# EAGLE library part WG7351 (library GTA04b7)
JorJin WL1271L (WiLink6) Module WLAN/BT/FM
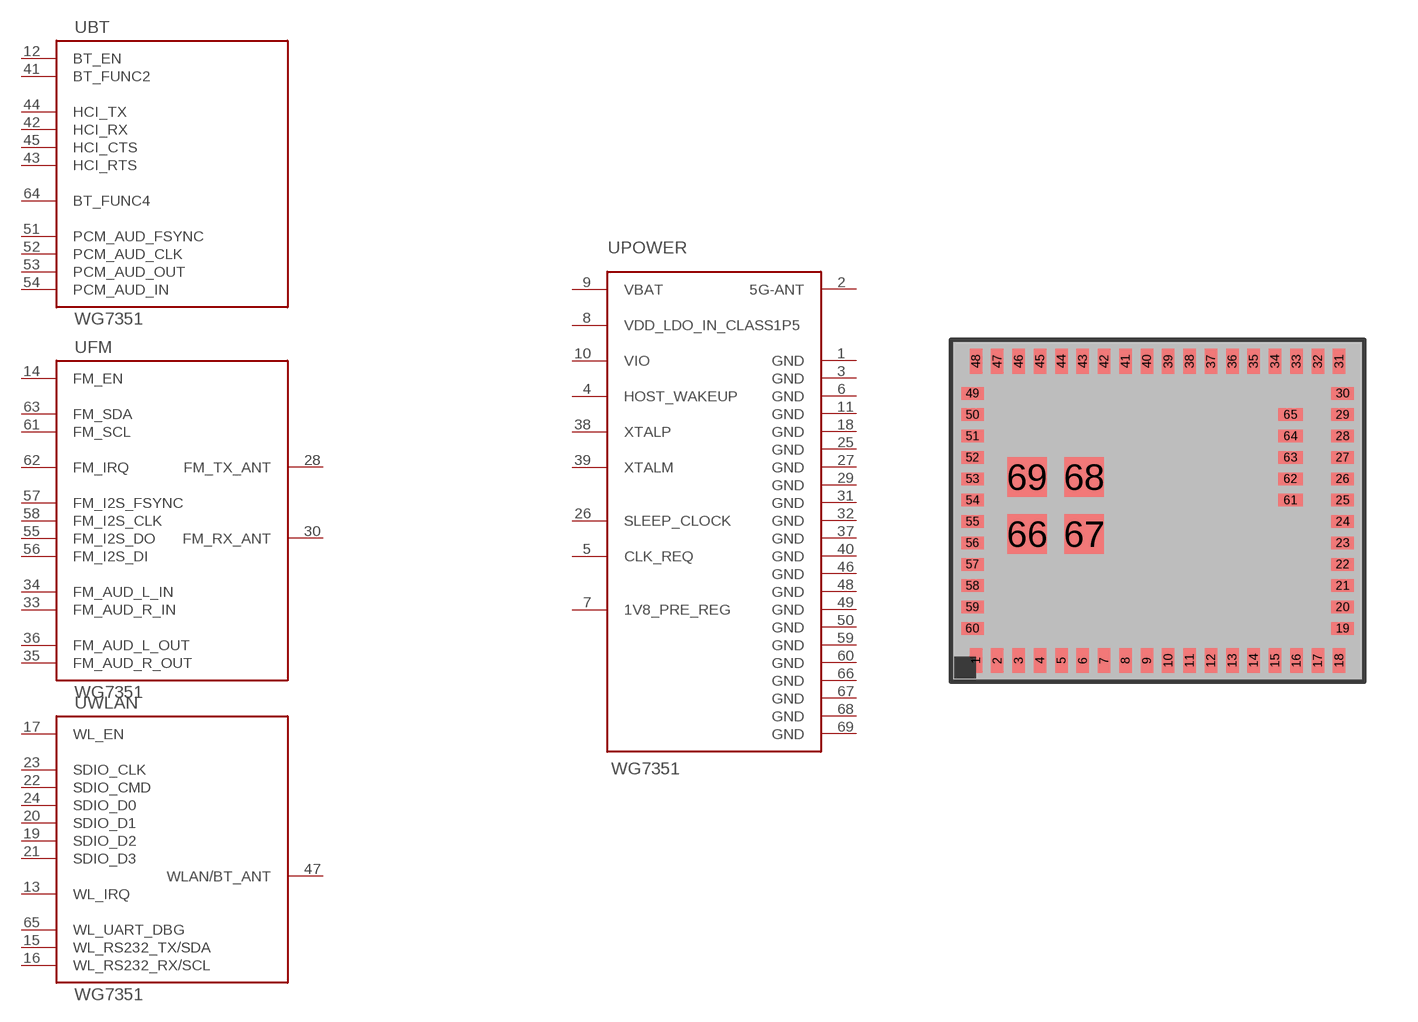
[diagram p56: symbol with the pads of JORJIN-WG7351; footprint JORJIN-WG7351]

Designator prefix -; gates BT=WG7311-BT FM=WG7311-FM POWER=WG7351-POWER WLAN=WG7311-WLAN

## WG7351  [JORJIN-WG7351]
1  POWER:GND  pwr
2  POWER:5G-ANT
3  POWER:GND  pwr
4  POWER:HOST_WAKEUP
5  POWER:CLK_REQ
6  POWER:GND  pwr
7  POWER:1V8_PRE_REG
8  POWER:VDD_LDO_IN_CLASS1P5  pwr
9  POWER:VBAT  pwr
10  POWER:VIO  pwr
11  POWER:GND  pwr
12  BT:BT_EN  in
13  WLAN:WL_IRQ
14  FM:FM_EN  in
15  WLAN:WL_RS232_TX/SDA  out
16  WLAN:WL_RS232_RX/SCL  in
17  WLAN:WL_EN  in
18  POWER:GND  pwr
19  WLAN:SDIO_D2
20  WLAN:SDIO_D1
21  WLAN:SDIO_D3
22  WLAN:SDIO_CMD
23  WLAN:SDIO_CLK
24  WLAN:SDIO_D0
25  POWER:GND  pwr
26  POWER:SLEEP_CLOCK  in
27  POWER:GND  pwr
28  FM:FM_TX_ANT  pas
29  POWER:GND  pwr
30  FM:FM_RX_ANT  pas
31  POWER:GND  pwr
32  POWER:GND  pwr
33  FM:FM_AUD_R_IN  pas
34  FM:FM_AUD_L_IN  pas
35  FM:FM_AUD_R_OUT  pas
36  FM:FM_AUD_L_OUT  pas
37  POWER:GND  pwr
38  POWER:XTALP  pas
39  POWER:XTALM  pas
40  POWER:GND  pwr
41  BT:BT_FUNC2
42  BT:HCI_RX  out
43  BT:HCI_RTS  out
44  BT:HCI_TX
45  BT:HCI_CTS  out
46  POWER:GND  pwr
47  WLAN:WLAN/BT_ANT  pas
48  POWER:GND  pwr
49  POWER:GND  pwr
50  POWER:GND  pwr
51  BT:PCM_AUD_FSYNC
52  BT:PCM_AUD_CLK
53  BT:PCM_AUD_OUT  out
54  BT:PCM_AUD_IN  in
55  FM:FM_I2S_DO  out
56  FM:FM_I2S_DI  in
57  FM:FM_I2S_FSYNC
58  FM:FM_I2S_CLK
59  POWER:GND  pwr
60  POWER:GND  pwr
61  FM:FM_SCL
62  FM:FM_IRQ  out
63  FM:FM_SDA
64  BT:BT_FUNC4
65  WLAN:WL_UART_DBG
66  POWER:GND  pwr
67  POWER:GND  pwr
68  POWER:GND  pwr
69  POWER:GND  pwr

## Footprint JORJIN-WG7351 (pad centres in mm)
JorJin WLAN/BT/FM Module WG735x
smd 0.35 x 0.7: 1 -5.1,-4.2; 2 -4.5,-4.2; 3 -3.9,-4.2; 4 -3.3,-4.2; 5 -2.7,-4.2; 6 -2.1,-4.2; 7 -1.5,-4.2; 8 -0.9,-4.2; 9 -0.3,-4.2; 10 0.3,-4.2; 11 0.9,-4.2; 12 1.5,-4.2; 13 2.1,-4.2; 14 2.7,-4.2; 15 3.3,-4.2; 16 3.9,-4.2; 17 4.5,-4.2; 18 5.1,-4.2; 31 5.1,4.2; 32 4.5,4.2; 33 3.9,4.2; 34 3.3,4.2; 35 2.7,4.2; 36 2.1,4.2; 37 1.5,4.2; 38 0.9,4.2; 39 0.3,4.2; 40 -0.3,4.2; 41 -0.9,4.2; 42 -1.5,4.2; 43 -2.1,4.2; 44 -2.7,4.2; 45 -3.3,4.2; 46 -3.9,4.2; 47 -4.5,4.2; 48 -5.1,4.2
smd 0.63 x 0.35: 19 5.2,-3.3; 20 5.2,-2.7; 21 5.2,-2.1; 22 5.2,-1.5; 23 5.2,-0.9; 24 5.2,-0.3; 25 5.2,0.3; 26 5.2,0.9; 27 5.2,1.5; 28 5.2,2.1; 29 5.2,2.7; 30 5.2,3.3; 49 -5.2,3.3; 50 -5.2,2.7; 51 -5.2,2.1; 52 -5.2,1.5; 53 -5.2,0.9; 54 -5.2,0.3; 55 -5.2,-0.3; 56 -5.2,-0.9; 57 -5.2,-1.5; 58 -5.2,-2.1; 59 -5.2,-2.7; 60 -5.2,-3.3
smd 0.7 x 0.35: 61 3.735,0.3; 62 3.735,0.9; 63 3.735,1.5; 64 3.735,2.1; 65 3.735,2.7
smd 1.1 x 1.1: 66 -3.665,-0.65; 67 -2.065,-0.65; 68 -2.065,0.95; 69 -3.665,0.95